# Altium footprint library PCB2.PcbLib: 98 footprints (part 1 of 7)
Each footprint in its own frame and in the unit in brackets; x right, y up, seen from the top. Pads: shape width x height; smd on the part's side, far side on the other; paste and mask are expansions set on the pad; w line width, h text height; cw(c..) or ccw(c..) is an arc to the next point about the centre after c.
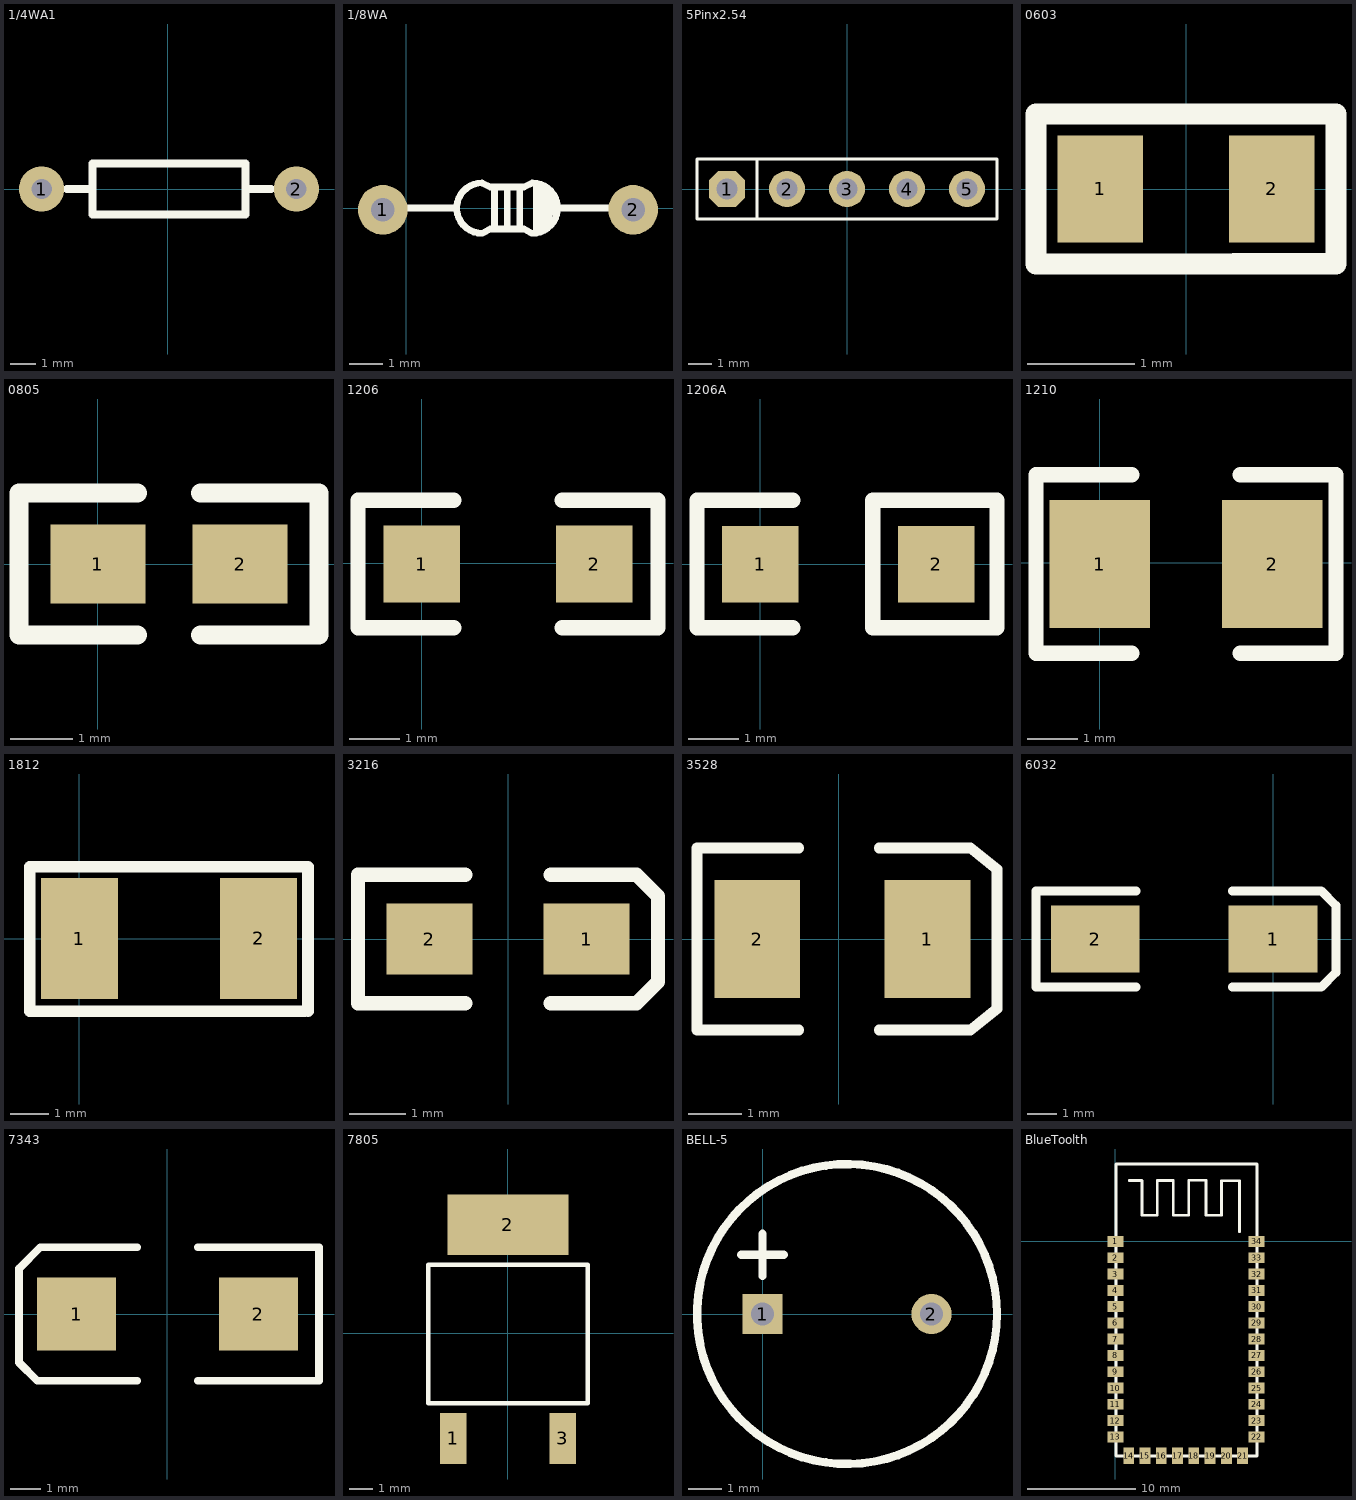
[diagram p0: the footprints below, top view; thin cyan lines are the x and y axes]

## 1/4WA1 [mm]
pads (2):
  round 1.8 hole 0.813: 1(-5.029,0) 2(5.131,0)
Top Overlay:
  lines w0.305: -4.013,0 -2.997,0 ; 3.099,0 4.115,0 ; -2.997,-1.016 -2.997,1.016 3.099,1.016 3.099,-1.016 -2.997,-1.016
3D body "AXIAL-0.4-0.25W.STEP": height 2, standoff -3.26, extent -5.304,-1.275 5.456,1.245

## 1/8WA [mm]
pads (2):
  round 1.5 hole 0.7: 1(-0.711,-0.051) 2(6.858,-0.051)
Top Overlay:
  lines w0.203: 0,0 1.524,0 ; 2.667,-0.635 2.667,0.635 ; 3.048,-0.635 3.048,0.635 ; 3.429,-0.635 3.429,0.635 ; 3.937,-0.635 3.937,0.635 ; 4.064,-0.635 4.064,0.635 ; 4.191,-0.635 4.191,0.508 ; 4.318,-0.381 4.318,0.381 ; 4.445,-0.127 4.445,0.254 ; 4.572,0 6.096,0 ; 2.286,-0.762 cw(c2.286,0) 2.286,0.762 2.54,0.635 3.556,0.635 3.81,0.762 cw(c3.81,0) 3.81,-0.762 3.556,-0.635 2.54,-0.635 2.286,-0.762
3D body "User Library-1_8w_dip.STEP": height 2.42, standoff -3.48, extent -0.952,-0.914 7.048,0.886

## 5Pinx2.54 [mil]
pads (5):
  oct 60x60 hole 35: 1(-200,0)
  round 60 hole 35: 2(-100,0) 3(0,0) 4(100,0) 5(200,0)
Top Overlay:
  lines w5: -250,-50 250,-50 250,50 -250,50 -250,-49 ; -150,-50 -150,50
3D body "0.1inch Pin Strip-5Way.STEP": height 397.64, standoff -59.06, extent -250,-50 250,50

## 0603 [mm]
pads (2):
  rect 0.8x1 smd: 1(-0.8,0) 2(0.8,0)
Top Overlay:
  lines w0.2: 0.451,-0.7 -1.4,-0.7 -1.4,0.7 -0.4,0.7 1.4,0.7 ; 0.451,-0.698 1.4,-0.698 1.4,0.695
3D body "R0603.STEP": height 0.45, standoff 0, extent -0.799,-0.365 0.801,0.435

## 0805 [mil]
height 68.9
pads (2):
  rect 60x50 smd: 1(0,0) 2(90,0)
Top Overlay:
  lines w12: 25,-45 -50,-45 -50,45 25,45 ; 65,-45 140,-45 140,45 65,45

## 1206 [mil]
pads (2):
  rect 60x60 smd: 1(0.22,-0.6) 2(135.22,-0.6)
Top Overlay:
  lines w12: 25.22,-50.6 -49.78,-50.6 -49.78,49.4 25.22,49.4 ; 110.22,-50.6 185.22,-50.6 185.22,49.4 110.22,49.4

## 1206A [mil]
height 23.62
pads (2):
  rect 60x60 smd: 1(0,0) 2(137.8,0)
Top Overlay:
  lines w12: 25.31,-49.67 -49.69,-49.67 -49.69,50.33 25.31,50.33 ; 88.1,-49.67 88.1,50.33 185.31,50.33 185.31,-49.67 88.1,-49.67
3D body "Diode MELF  SOD80.STEP": height 58.27, standoff -0.79, extent -0.89,-29.03 136.9,30.02

## 1210 [mm]
pads (2):
  rect 2x2.54 smd: 1(0.004,-0.022) 2(3.433,-0.022)
Top Overlay:
  lines w0.305: 0.639,-1.8 -1.266,-1.8 -1.266,1.756 0.639,1.756 ; 2.798,-1.8 4.703,-1.8 4.703,1.756 2.798,1.756

## 1812 [mil]
pads (2):
  rect 80x125 smd: 1(0,0) 2(185.09,0.25)
Top Overlay:
  lines w12: 232.47,-75.27 -51.19,-75.27 -51.19,74.33 236.21,74.33 236.21,-75.27

## 3216 [mil]
pads (2):
  rect 60x50 smd: 1(55,0) 2(-55,0)
Top Overlay:
  lines w10: -30,-45 -105,-45 -105,45 -30,45 ; 30,-45 90,-45 105,-30 105,30 90,45 30,45
3D body "SMC-A-3216.step": height 62.99, standoff 0, extent -64.98,-30.99 61,32

## 3528 [mm]
height 0.6
pads (2):
  rect 1.6x2.2 smd: 1(1.651,0) 2(-1.524,0)
Top Overlay:
  lines w0.2: -0.75,-1.7 -2.65,-1.7 -2.65,1.7 -0.75,1.7 ; 0.75,-1.7 2.45,-1.7 2.95,-1.3 2.95,1.3 2.45,1.7 0.75,1.7
3D body "AVX_BCASE.STEP": height 2.03, standoff 0, extent -1.748,-1.439 1.952,1.491

## 6032 [mil]
pads (2):
  rect 120x90 smd: 1(0,0) 2(-240,0)
Top Overlay:
  lines w12: -185,-65 -320,-65 -320,65 -185,65 ; -55,-65 65,-65 85,-45 85,45 65,65 -55,65
3D body "SMC-C-6032.step": height 102.36, standoff 0, extent -246.23,-63.99 -10,62

## 7343 [mm]
pads (2):
  rect 2.6x2.4 smd: 1(-3,0) 2(3,0)
Top Overlay:
  lines w0.254: -1,-2.2 -4.3,-2.2 -4.9,-1.6 -4.9,1.5 -4.2,2.2 -1,2.2 ; 1,-2.2 5,-2.2 ; 1,2.2 5,2.2 5,-2.2 ; 5,-2.2 5,-2.2
3D body "7343-CAP_TANT_7343-31.STEP": height 3.1, standoff 0, extent -3.774,-2.351 3.826,2.249

## 7805 [mm]
pads (3):
  rect 1.1x2.15 smd: 1(-2.3,-4.407) 3(2.3,-4.407)
  rect 5.08x2.54 smd: 2(0,4.572)
Top Overlay:
  lines w0.2: -3.35,-2.933 -3.35,2.883 3.35,2.883 3.35,-2.933 -3.35,-2.933
3D body "User Library-DPAK-1.STEP": height 2.39, standoff -0.02, extent -3.245,-4.845 3.295,5.093

## BELL-5 [mm]
pads (2):
  rect 1.2x1.2 hole 0.7: 1(0,0)
  round 1.2 hole 0.7: 2(5.08,0)
Top Overlay:
  circle w0.254: c2.54,0 r4.51
  lines w0.254: -0.635,1.778 0.635,1.778 ; 0,1.143 0,2.413

## BlueToolth [mm]
pads (34):
  rect 1.5x1 smd: 1(0,0) 2(0,-1.5) 3(0,-3) 4(0,-4.5) 5(0,-6) 6(0,-7.5) 7(0,-9) 8(0,-10.5) 9(0,-12) 10(0,-13.5) 11(0,-15) 12(0,-16.5) 13(0,-18) 22(13,-18) 23(13,-16.5) 24(13,-15) 25(13,-13.5) 26(13,-12) 27(13,-10.5) 28(13,-9) 29(13,-7.5) 30(13,-6) 31(13,-4.5) 32(13,-3) 33(13,-1.5) 34(13,0)
  rect 1x1.5 smd: 14(1.219,-19.75) 15(2.719,-19.75) 16(4.219,-19.75) 17(5.719,-19.75) 18(7.219,-19.75) 19(8.719,-19.75) 20(10.219,-19.75) 21(11.719,-19.75)
Top Overlay:
  lines w0.254: 1.27,5.613 2.438,5.613 2.438,2.413 3.861,2.413 3.861,5.613 5.334,5.613 5.334,2.413 6.756,2.413 6.756,5.639 8.331,5.639 8.331,2.413 9.779,2.413 9.779,5.588 11.43,5.588 11.43,0.889 ; 0.051,-19.761 0.051,7.139 13.051,7.139 13.051,-19.761 0.051,-19.761